# Altium schematic symbol library slip-ring.SchLib: 2 symbols
Pins are listed as number, name and electrical type; pins without a type are passive.

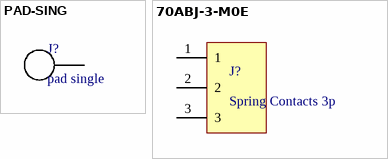
[diagram p0: symbols PAD-SING to ‎70ABJ-3-M0E‎]

## PAD-SING
designator J?, comment pad single
footprint PAD_SING
pins: 1 (power)

## ‎70ABJ-3-M0E‎
designator J?, comment Spring Contacts 3p
Spring loaded electrical contacts
footprint 70ABJ-3-M0E
pins: 1 (power), 2 (power), 3 (power), 4 (power), 5 (power), 6 (power)